# EAGLE library part WE-LAN-10G,749052011 (library Wurth_Elektronik_Passive_rev16c)
LAN-Transformer WE-LAN 10G <http://katalog.we-online.de/media/images/v2/Family_WE-LAN.jpg> Details see: http://katalog.we-online.de/en/pbs/WE-LAN/749052011?m 2015 (C) Würth Elektronik
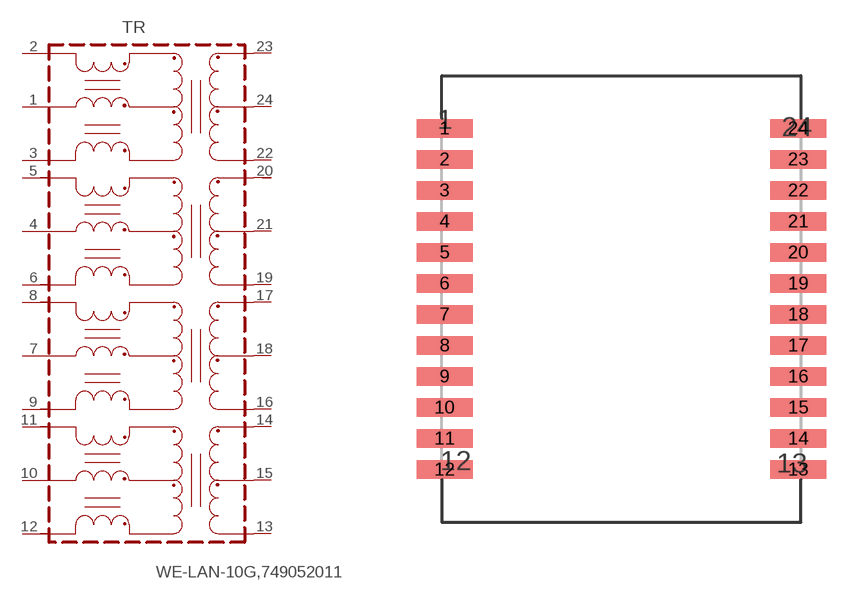
[diagram p181: symbol with the pads of WE-LAN10G1.27MM; footprint WE-LAN10G1.27MM]

Designator prefix TR

## WE-LAN-10G,749052011  [WE-LAN10G1.27MM]
1  TCT1
2  TD1+
3  TD1-
4  TCT2
5  TD2+
6  TD2-
7  TCT3
8  TD3+
9  TD3-
10  TCT4
11  TD4+
12  TD4-
13  MX4-
14  MX4+
15  MCT4
16  MX3-
17  MX3+
18  MCT3
19  MX2-
20  MX2+
21  MCT2
22  MX1-
23  MX1+
24  MCT1

## Footprint WE-LAN10G1.27MM (pad centres in mm)
WE-LAN 10G:1.27mm
smd 2.29 x 0.76: 1 -7.24,6.985; 2 -7.24,5.715; 3 -7.24,4.445; 4 -7.24,3.175; 5 -7.24,1.905; 6 -7.24,0.635; 7 -7.24,-0.635; 8 -7.24,-1.905; 9 -7.24,-3.175; 10 -7.24,-4.445; 11 -7.24,-5.715; 12 -7.24,-6.985; 13 7.24,-6.985; 14 7.24,-5.715; 15 7.24,-4.445; 16 7.24,-3.175; 17 7.24,-1.905; 18 7.24,-0.635; 19 7.24,0.635; 20 7.24,1.905; 21 7.24,3.175; 22 7.24,4.445; 23 7.24,5.715; 24 7.24,6.985